# Altium schematic symbol library LQM21FN100M80L.SchLib: 2 symbols
Pins are listed as number, name and electrical type; pins without a type are passive.

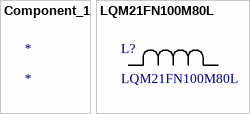
[diagram p0: symbols Component_1 to LQM21FN100M80L]

## Component_1
designator *

## LQM21FN100M80L
designator L?
No Description Available; Manufacturer_Name: Murata; Copyright: Copyright (C) 2025 Ultra Librarian. All rights reserved.; Manufacturer_Part_Number: LQM21FN100M80L
footprint IND_LQM21FN100M80L_MUR
pins: 1, 2